# EAGLE library part TPS63070RNMR (library TPS63070RNMR)
Check availability <https://pricing.snapeda.com/parts/TPS63070RNMR/Texas%20Instruments/view-part?ref=eda>
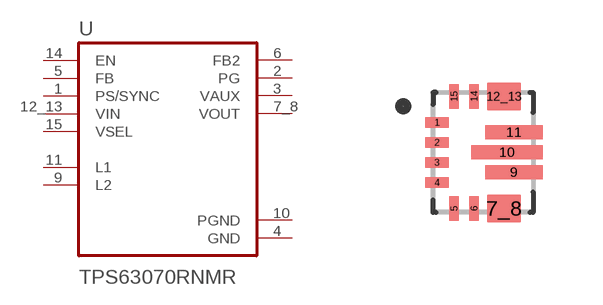
[diagram p0: symbol with the pads of VREG_TPS63070RNMR; footprint VREG_TPS63070RNMR]

Designator prefix U

## TPS63070RNMR (Availability: In Stock; Check_prices: https://www.snapeda.com/parts/TPS63070RNMR/Texas+Instruments/view-part/?ref=eda; Description: Wide input voltage (2V-16V) buck-boost converter; MF: Texas Instruments; MP: TPS63070RNMR; Package: VQFN-HR-15 Texas Instruments; Price: None; Purchase-URL: https://www.snapeda.com/api/url_track_click_mouser/?unipart_id=583017&manufacturer=Texas Instruments&part_name=TPS63070RNMR&search_term=tps63070rnmr; SnapEDA_Link: https://www.snapeda.com/parts/TPS63070RNMR/Texas+Instruments/view-part/?ref=snap)  [VREG_TPS63070RNMR]
1  PS/SYNC  in
2  PG  out
3  VAUX  out
4  GND  pwr
5  FB  in
6  FB2  out
7_8  VOUT  out
9  L2
10  PGND  pwr
11  L1
12_13  VIN  in
14  EN  in
15  VSEL  in

## Footprint VREG_TPS63070RNMR (pad centres in mm)
smd 0.6 x 0.25: 1 -1.15,0.75; 2 -1.15,0.25; 3 -1.15,-0.25; 4 -1.15,-0.75
smd 0.25 x 0.6: 5 -0.725,-1.4; 6 -0.225,-1.4; 14 -0.225,1.4; 15 -0.725,1.4
smd 0.85 x 0.7: 7_8 0.525,-1.4; 12_13 0.525,1.4
smd 1.45 x 0.35: 9 0.775,-0.5; 11 0.775,0.5
smd 1.8 x 0.35: 10 0.6,0